# Altium footprint library PCB - MISC - 1271.1000.PCBLIB: 1 footprints
Each footprint in its own frame and in the unit in brackets; x right, y up, seen from the top. Pads: shape width x height; smd on the part's side, far side on the other; paste and mask are expansions set on the pad; w line width, h text height; cw(c..) or ccw(c..) is an arc to the next point about the centre after c.
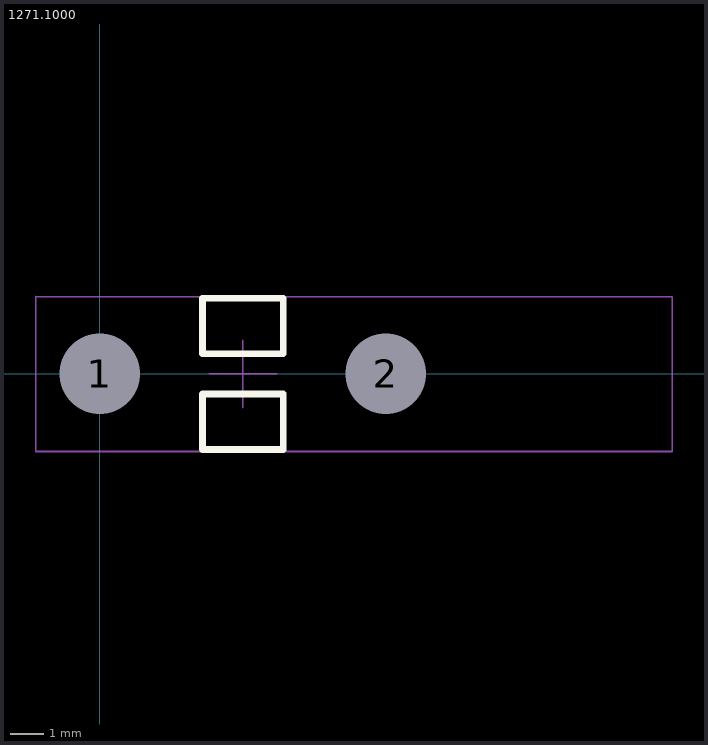
[diagram p0: the footprint, top view; thin cyan lines are the x and y axes]

## 1271.1000 [mm]
pads (2):
  round 2.1 hole 2.4 unplated: 1(0,0) 2(8.5,0)
Top Overlay:
  lines w0.2: 3.05,-2.25 3.05,-0.6 5.45,-0.6 5.45,-2.25 3.05,-2.25 ; 3.05,0.6 3.05,2.25 5.45,2.25 5.45,0.6 3.05,0.6
Top Courtyard:
  lines w0.05: -1.905,-2.309 17.018,-2.309 17.018,2.291 -1.905,2.291 ; -1.905,-2.3 -1.905,0 -1.905,2.3
Top Designator:
  text ".Designator" at 2.452,3.712 h1
Top Component Center:
  lines w0.05: 3.25,0 5.25,0 ; 4.25,-1 4.25,1
Top Value:
  text ".Comment" at 2.54,4.583 h1
3D body "1271.1000.stp": height 6.58, standoff -2.9, extent -1.649,-1.5 16.64,1.5